# Altium footprint library Microchip Bluetooth.PcbLib: 2 footprints
Each footprint in its own frame and in the unit in brackets; x right, y up, seen from the top. Pads: shape width x height; smd on the part's side, far side on the other; paste and mask are expansions set on the pad; w line width, h text height; cw(c..) or ccw(c..) is an arc to the next point about the centre after c.
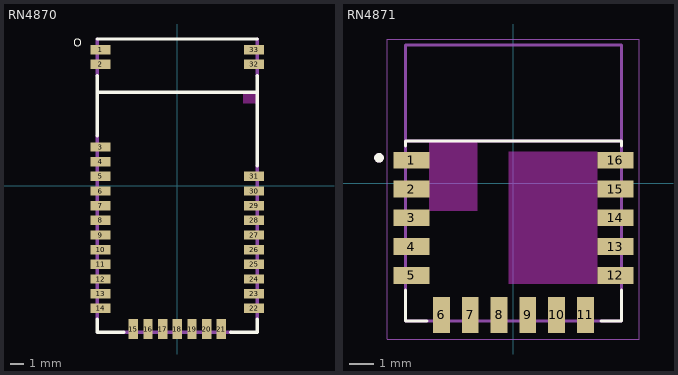
[diagram p0: the footprints below, top view; thin cyan lines are the x and y axes]

## RN4870 [mm]
pads (33):
  rect 1.5x0.7 smd: 1(-5.75,10.2) 2(-5.75,9.1) 3(-5.75,2.9) 4(-5.75,1.8) 5(-5.75,0.7) 6(-5.75,-0.4) 7(-5.75,-1.5) 8(-5.75,-2.6) 9(-5.75,-3.7) 10(-5.75,-4.8) 11(-5.75,-5.9) 12(-5.75,-7) 13(-5.75,-8.1) 14(-5.75,-9.2) 22(5.75,-9.2) 23(5.75,-8.1) 24(5.75,-7) 25(5.75,-5.9) 26(5.75,-4.8) 27(5.75,-3.7) 28(5.75,-2.6) 29(5.75,-1.5) 30(5.75,-0.4) 31(5.75,0.7) 32(5.75,9.1) 33(5.75,10.2)
  rect 0.7x1.5 smd: 15(-3.3,-10.75) 16(-2.2,-10.75) 17(-1.1,-10.75) 18(0,-10.75) 19(1.1,-10.75) 20(2.2,-10.75) 21(3.3,-10.75)
Top Overlay:
  circle w0: c-7.5,10.75 r0.254
  lines w0.254: -6,-10 -6,-11 -4,-11 ; -6,3.75 -6,7 ; -6,8.25 -6,7 ; -6,11 6,11 ; 4,-11 6,-11 6,-10 ; 6,1.5 6,7 ; 6,8.25 6,7 ; -6,7 6,7
Keep-Out Layer:
  region: 4.933,7 6,7 6,6.167 4.933,6.167
  region: 4.933,7 6,7 6,6.167 4.933,6.167
  region: 4.933,7 6,7 6,6.167 4.933,6.167
Mechanical 4:
  lines w0.254: -6,-10 -6,3.75 -6,-10 ; -6,8.25 -6,11 -6,8.25 ; -4,-11 4,-11 -4,-11 ; 6,-10 6,1.5 6,-10 ; 6,8.25 6,11 6,8.25
3D body "RM100--3DModel-STEP-56544.STEP": height 2.41, standoff 0.01, extent -6,-11 6,11

## RN4871 [mm]
pads (16):
  rect 1.5x0.7 smd: 1(-4.25,0.95) 2(-4.25,-0.25) 3(-4.25,-1.45) 4(-4.25,-2.65) 5(-4.25,-3.85) 12(4.25,-3.85) 13(4.25,-2.65) 14(4.25,-1.45) 15(4.25,-0.25) 16(4.25,0.95)
  rect 0.7x1.5 smd: 6(-3,-5.5) 7(-1.8,-5.5) 8(-0.6,-5.5) 9(0.6,-5.5) 10(1.8,-5.5) 11(3,-5.5)
Top Overlay:
  circle w0.2: c-5.6,1.05 r0.1
  lines w0.127: -4.5,-4.45 -4.5,-5.75 -3.6,-5.75 ; -4.5,1.55 -4.5,1.75 4.5,1.75 4.5,1.55 ; 3.65,-5.75 4.5,-5.75 4.5,-4.45
Keep-Out Layer:
  region: -0.2,1.3 3.5,1.3 3.5,-4.2 -0.2,-4.2
  region: -3.5,1.75 -1.5,1.75 -1.5,-1.15 -3.5,-1.15
Mechanical 4:
  circle w0.2: c-5.6,1.05 r0.1
  circle w0.2: c-5.6,1.05 r0.1
  lines w0.127: -4.5,-5.75 -4.5,1.75 ; -4.5,-5.75 4.5,-5.75 ; -4.5,-5.75 -4.5,1.75 ; -4.5,-5.75 4.5,-5.75 ; -4.5,1.75 4.5,1.75 ; -4.5,1.75 -4.5,5.75 ; -4.5,1.75 4.5,1.75 ; -4.5,1.75 -4.5,5.75 ; -4.5,5.75 4.5,5.75 ; -4.5,5.75 4.5,5.75 ; 4.5,-5.75 4.5,1.75 ; 4.5,-5.75 4.5,1.75 ; 4.5,1.75 4.5,5.75 ; 4.5,1.75 4.5,5.75
Mechanical 16:
  lines w0.05: -5.25,-6.5 -5.25,6 5.25,6 5.25,-6.5 -5.25,-6.5
3D body "User Library-Module_Microchip_RN4871.step": height 2.11, standoff 0.01, extent -4.5,-5.785 4.5,5.715